# EAGLE library part TINY4 (library avr-6)
The high-performance, low-power Atmel 8-bit AVR RISC-based microcontroller combines 512B ISP flash memory, 32B SRAM, 4 general purpose I/O lines, 16 general purpose working registers, a 16-bit timer/counter with two PWM channels, internal and external interrupts, programmable watchdog timer with internal oscillator, an internal calibrated oscillator, and 4 software selectable power saving modes. The device operates between 1.8-5.5 volts. See http://www.atmel.com/devices/attiny4.aspx
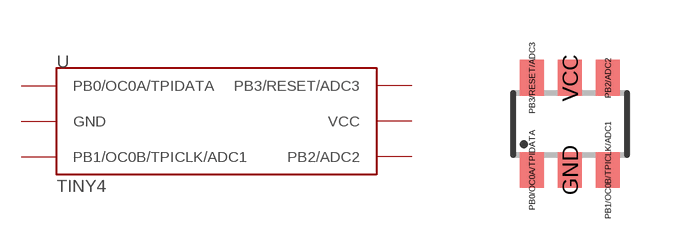
[diagram p61: symbol with the pads of SOT23-6; footprint SOT23-6]

Designator prefix -

## TINY4  [SOT23-6]
GND  GND  pwr
PB0/OC0A/TPIDATA  PB0/OC0A/TPIDATA
PB1/OC0B/TPICLK/ADC1  PB1/OC0B/TPICLK/ADC1
PB2/ADC2  PB2/ADC2
PB3/RESET/ADC3  PB3/RESET/ADC3
VCC  VCC  pwr

## Footprint SOT23-6 (pad centres in mm)
Small Outline Transistor 6 lead
smd 0.6 x 0.9: GND 0,-1.15; PB0/OC0A/TPIDATA -0.95,-1.15; PB1/OC0B/TPICLK/ADC1 0.95,-1.15; PB2/ADC2 0.95,1.15; PB3/RESET/ADC3 -0.95,1.15; VCC 0,1.15